# EAGLE library part INA212AIDCKR (library TexasInstruments)
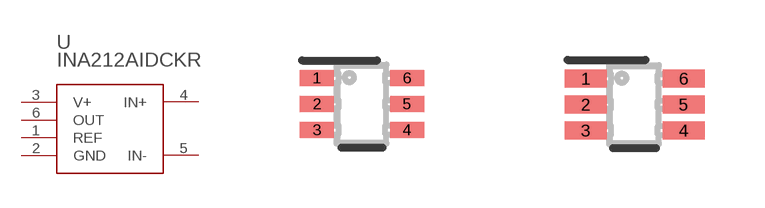
[diagram p16: symbol with the pads of DCK0006A_N; footprints DCK0006A_N, DCK0006A_M]

Designator prefix U

## INA212AIDCKR (COPYRIGHT: Copyright (C) 2023 Ultra Librarian. All rights reserved.; MANUFACTURER_PART_NUMBER: INA212AIDCKR; MFR_NAME: Texas Instruments; REFDES: RefDes; TYPE: TYPE)  [DCK0006A_N]
1  REF  in
2  GND  pwr
3  V+  pwr
4  IN+  in
5  IN-  in
6  OUT  out

## INA212AIDCKRDCK0006A_M (COPYRIGHT: Copyright (C) 2023 Ultra Librarian. All rights reserved.; MANUFACTURER_PART_NUMBER: INA212AIDCKR; MFR_NAME: Texas Instruments; REFDES: RefDes; TYPE: TYPE)  [DCK0006A_M]
Pads as for DCK0006A_N

## INA212AIDCKRDCK0006A_L (COPYRIGHT: Copyright (C) 2023 Ultra Librarian. All rights reserved.; MANUFACTURER_PART_NUMBER: INA212AIDCKR; MFR_NAME: Texas Instruments; REFDES: RefDes; TYPE: TYPE)  [DCK0006A_L]
Pads as for DCK0006A_N

## Footprint DCK0006A_N (pad centres in mm)
smd 0.85 x 0.4: 1 -1.125,0.65; 2 -1.125,0; 3 -1.125,-0.65; 4 1.125,-0.65; 5 1.125,0; 6 1.125,0.65

## Footprint DCK0006A_M (pad centres in mm)
smd 1.05 x 0.45: 1 -1.225,0.65; 2 -1.225,0; 3 -1.225,-0.65; 4 1.225,-0.65; 5 1.225,0; 6 1.225,0.65

## Footprint DCK0006A_L (pad centres in mm)
smd 0.65 x 0.4: 1 -1.025,0.65; 2 -1.025,0; 3 -1.025,-0.65; 4 1.025,-0.65; 5 1.025,0; 6 1.025,0.65